# EAGLE library part WISMO228 (library X893)
http://www.sierrawireless.com/en/sitecore/content/Sierra%20Wireless/Support/Downloads/AirPrime/WS_Series/~/media/Support_Downloads/AirPrime/Hardware_specifications_and_user_guides/AirPrime_WISMO228_Product_Technical_Specification_and_Customer_Design_Guidelines_r5.ashx
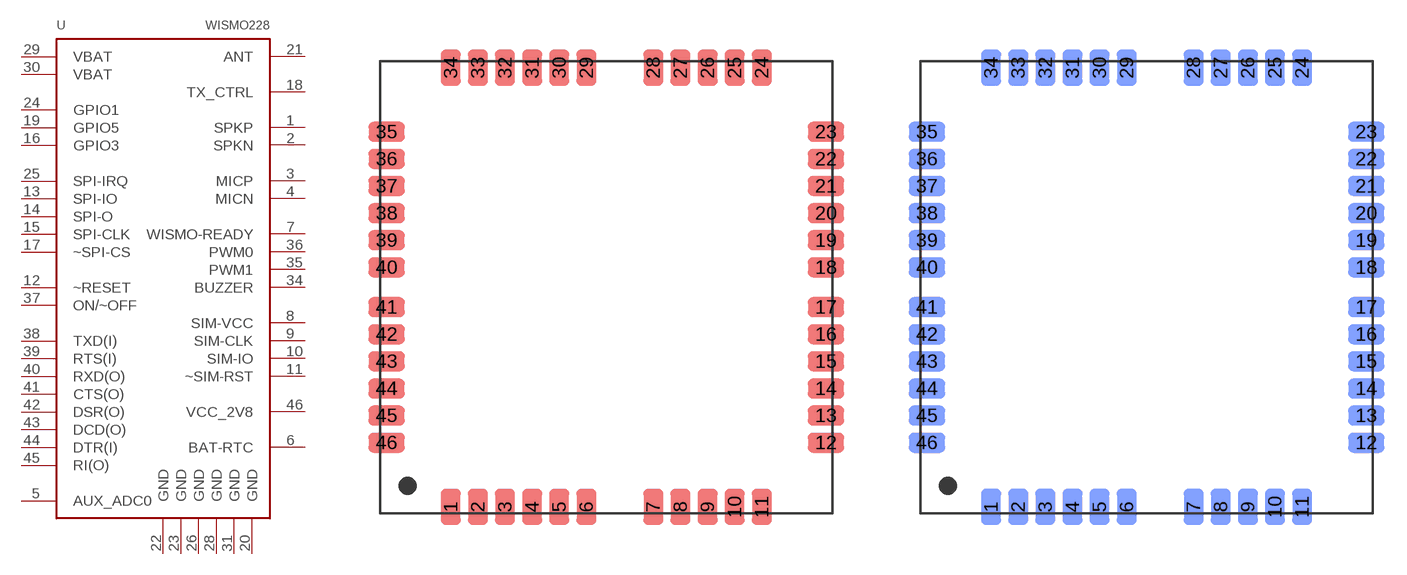
[diagram p99: symbol with the pads of WISMO228; footprints WISMO228, WISMO228-BOT]

Designator prefix U

## WISMO228  [WISMO228]
1  SPKP  pas
2  SPKN  pas
3  MICP  pas
4  MICN  pas
5  AUX_ADC0  in
6  BAT-RTC  in
7  WISMO-READY  out
8  SIM-VCC  out
9  SIM-CLK  out
10  SIM-IO
11  ~SIM-RST  out
12  ~RESET  in
13  SPI-IO
14  SPI-O  out
15  SPI-CLK  out
16  GPIO3
17  ~SPI-CS  out
18  TX_CTRL  out
19  GPIO5
20  GND  sup
21  ANT
22  GND  sup
23  GND  sup
24  GPIO1
25  SPI-IRQ  in
26  GND  sup
27  NC1  nc
28  GND  sup
29  VBAT
30  VBAT
31  GND  sup
32  NC2  nc
33  NC3  nc
34  BUZZER  out
35  PWM1  out
36  PWM0  out
37  ON/~OFF  in
38  TXD(I)  in
39  RTS(I)  in
40  RXD(O)  out
41  CTS(O)  out
42  DSR(O)  out
43  DCD(O)  out
44  DTR(I)  in
45  RI(O)  out
46  VCC_2V8  out

## WISMO228-BOT  [WISMO228-BOT]
Pads as for WISMO228

## Footprint WISMO228 (pad centres in mm)
http://www.sierrawireless.com/en/Support/Downloads/AirPrime/WS_Series/~/media/Support_Downloads/AirPrime/Hardware_specifications_and_user_guides/Customer_Process_Guideline_for_WISMO_Modules_r2.ashx
smd 1.1 x 2: 1 -8.6,-12.15; 2 -7.1,-12.15; 3 -5.6,-12.15; 4 -4.1,-12.15; 5 -2.6,-12.15; 6 -1.1,-12.15; 7 2.6,-12.15; 8 4.1,-12.15; 9 5.6,-12.15; 10 7.1,-12.15; 11 8.6,-12.15; 24 8.6,12.15; 25 7.1,12.15; 26 5.6,12.15; 27 4.1,12.15; 28 2.6,12.15; 29 -1.1,12.15; 30 -2.6,12.15; 31 -4.1,12.15; 32 -5.6,12.15; 33 -7.1,12.15; 34 -8.6,12.15
smd 2 x 1.1: 12 12.15,-8.6; 13 12.15,-7.1; 14 12.15,-5.6; 15 12.15,-4.1; 16 12.15,-2.6; 17 12.15,-1.1; 18 12.15,1.1; 19 12.15,2.6; 20 12.15,4.1; 21 12.15,5.6; 22 12.15,7.1; 23 12.15,8.6; 35 -12.15,8.6; 36 -12.15,7.1; 37 -12.15,5.6; 38 -12.15,4.1; 39 -12.15,2.6; 40 -12.15,1.1; 41 -12.15,-1.1; 42 -12.15,-2.6; 43 -12.15,-4.1; 44 -12.15,-5.6; 45 -12.15,-7.1; 46 -12.15,-8.6

## Footprint WISMO228-BOT (pad centres in mm)
http://www.sierrawireless.com/en/Support/Downloads/AirPrime/WS_Series/~/media/Support_Downloads/AirPrime/Hardware_specifications_and_user_guides/Customer_Process_Guideline_for_WISMO_Modules_r2.ashx
smd 1.1 x 2 bottom: 1 -8.6,-12.15; 2 -7.1,-12.15; 3 -5.6,-12.15; 4 -4.1,-12.15; 5 -2.6,-12.15; 6 -1.1,-12.15; 7 2.6,-12.15; 8 4.1,-12.15; 9 5.6,-12.15; 10 7.1,-12.15; 11 8.6,-12.15; 24 8.6,12.15; 25 7.1,12.15; 26 5.6,12.15; 27 4.1,12.15; 28 2.6,12.15; 29 -1.1,12.15; 30 -2.6,12.15; 31 -4.1,12.15; 32 -5.6,12.15; 33 -7.1,12.15; 34 -8.6,12.15
smd 2 x 1.1 bottom: 12 12.15,-8.6; 13 12.15,-7.1; 14 12.15,-5.6; 15 12.15,-4.1; 16 12.15,-2.6; 17 12.15,-1.1; 18 12.15,1.1; 19 12.15,2.6; 20 12.15,4.1; 21 12.15,5.6; 22 12.15,7.1; 23 12.15,8.6; 35 -12.15,8.6; 36 -12.15,7.1; 37 -12.15,5.6; 38 -12.15,4.1; 39 -12.15,2.6; 40 -12.15,1.1; 41 -12.15,-1.1; 42 -12.15,-2.6; 43 -12.15,-4.1; 44 -12.15,-5.6; 45 -12.15,-7.1; 46 -12.15,-8.6